# Altium schematic symbol library EPS.SchLib: 45 symbols
Pins are listed as number, name and electrical type; pins without a type are passive.

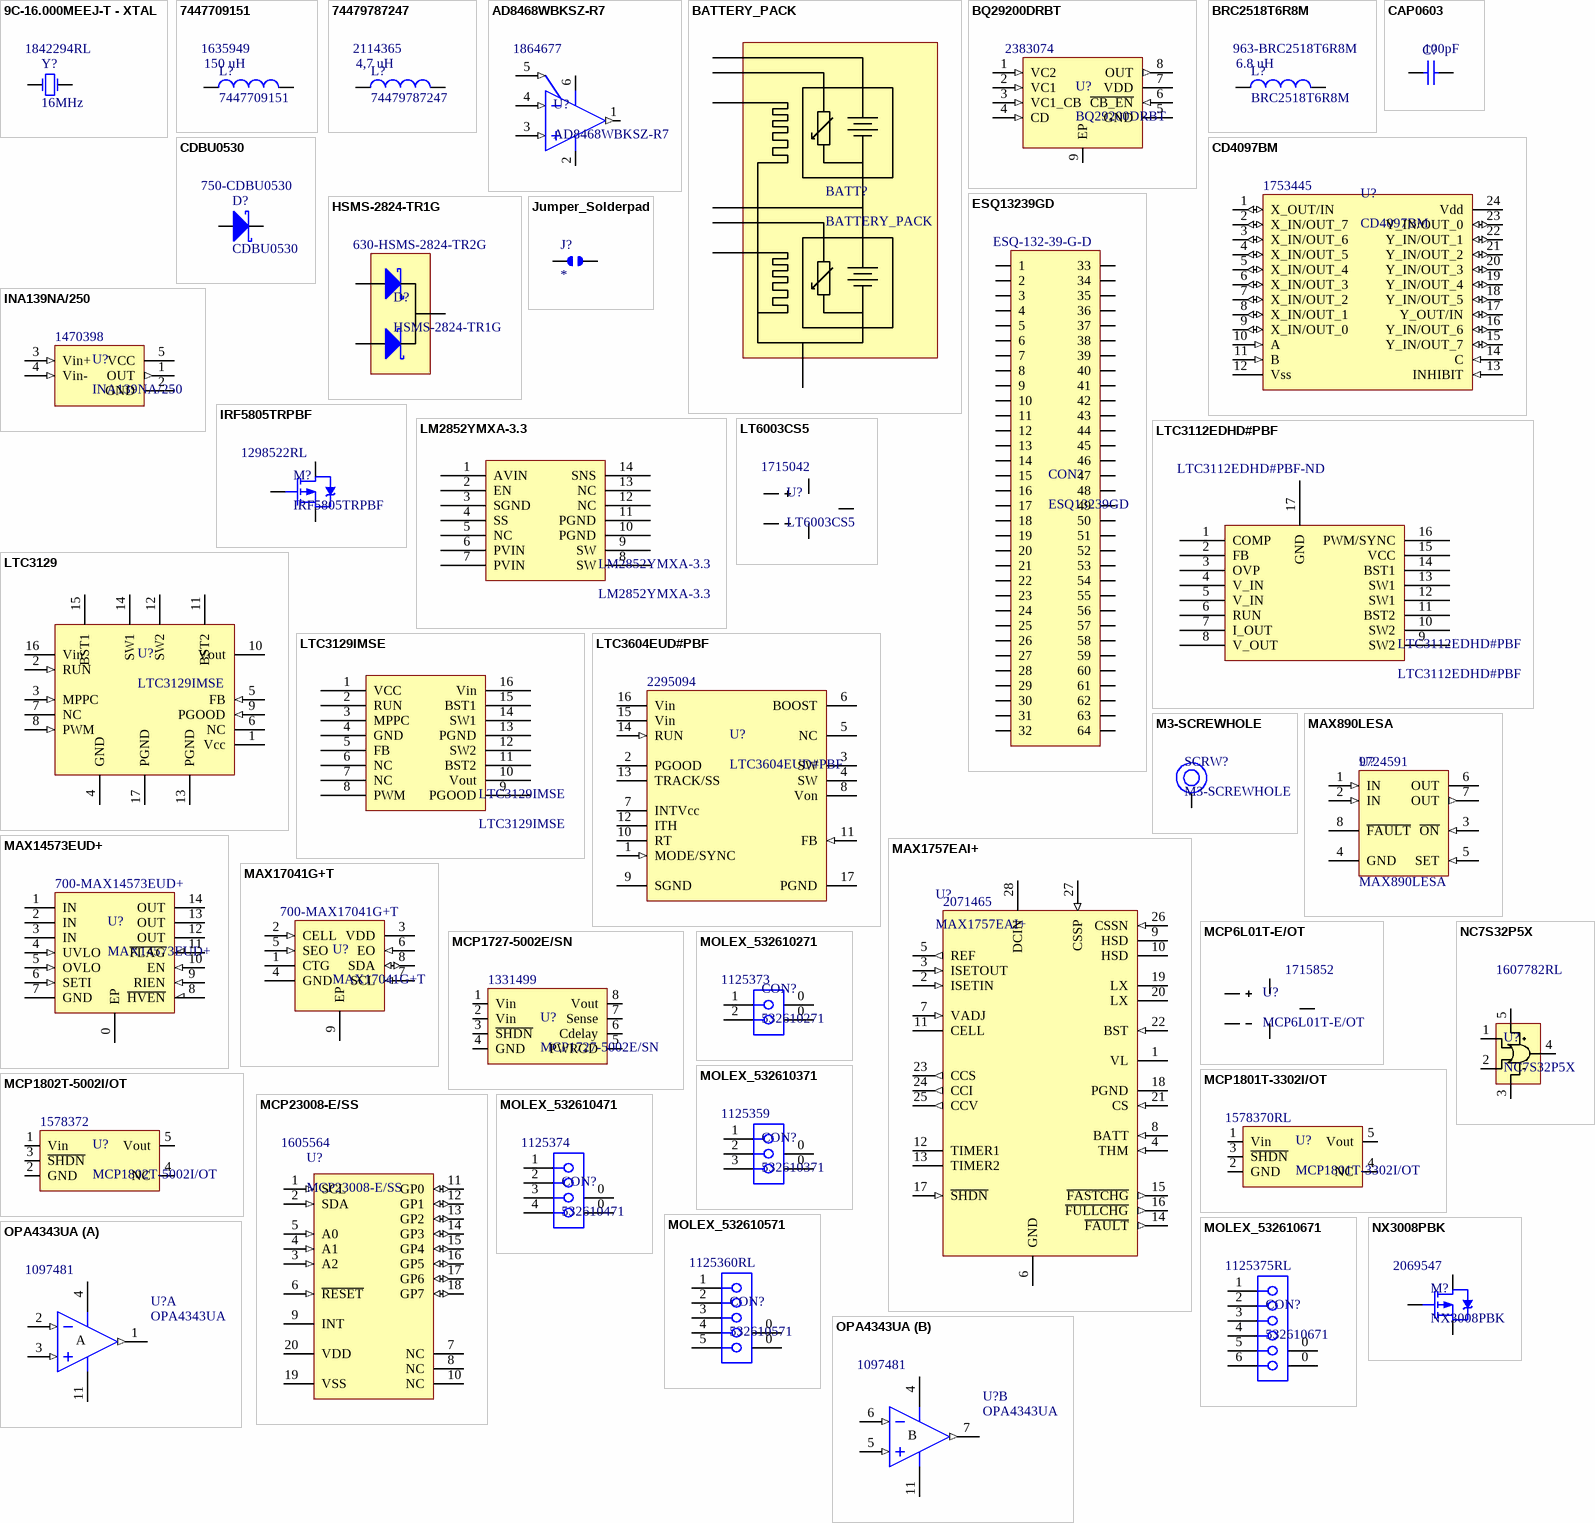
[diagram p0: symbols 9C-16.000MEEJ-T - XTAL to OPA4343UA]

## 9C-16.000MEEJ-T - XTAL
designator Y?, comment 16MHz  Supplier Part Number 1: 1842294RL
16 MHz Crystal Oscillator; Supplier 1: Farnell
footprint 9C-16.000MEEJ-T (16 MHz Crystal)
pins: 1 OSC1, 2 OSC2

## 7447709151
designator L?  value 150 uH  Supplier Part Number 1: 1635949
WE-PD SMD Shielded Power Inductor; DC Resistance: 0.2 Ohm; Supplier 1: Farnell
simulation model INDUCTOR (Inductor)
signal-integrity model Inductor
footprint 7447709151 (WE-PD SMD Shielded Power Inductor)
pins: 1, 2

## 74479787247
designator L?  value 4,7 uH  Supplier Part Number 1: 2114365
INDUCTOR, 4.7UH, 1.25A, 40MHZ; DC Resistance: 0.11 Ohm; Supplier 1: Farnell
simulation model INDUCTOR (Inductor)
signal-integrity model Inductor
footprint 74479787247 (INDUCTOR, 4.7UH, 1.25A, 40MHZ)
pins: 1, 2

## AD8468WBKSZ-R7
designator U?  Supplier Part Number 1: 1864677
Rail-to-Rail, Fast, Low Power 2.5 V to 5.5 V,   Single-Supply TTL/CMOS Comparator; Supplier 1: Farnell
footprint SC70-6 (6-Lead Thin Shrink Small Outline Transistor Package)
pins: 1 Q (out), 2 GND (power), 3 Vp (in), 4 Vn (in), 5 Sdn (in), 6 Vcc (power)

## BATTERY_PACK
designator BATT?
2 Li-Ion Cells with a 10K NTC thermistor 40.5Ohms heater & heach
footprint BatteryPack
pins: 1 BAT_GND, 2 THERM2, 3 THERM1, 4 HEAT2, 5 HEAT1, 6 CELL1, 7 CELL2

## BQ29200DRBT
designator U?  Supplier Part Number 1: 2383074
Voltage Protection with Automatic Cell Balance for 2-Series Cell Li-Ion Batteries; Supplier 1: Farnell
footprint DRB8 (Plastic Small Outline NO-LEAD (S-PVSON-N8))
pins: 1 VC2 (in), 2 VC1 (in), 3 VC1_CB (in), 4 CD (in), 5 GND (power), 6 ~{CB_EN} (in), 7 VDD (power), 8 OUT (out), 9 EP (power)

## BRC2518T6R8M
designator L?  value 6.8 uH  Supplier Part Number 1: 963-BRC2518T6R8M
WIRE-WOUND CHIP POWER INDUCTORS(BR SERIES); Supplier 1: Mouser
simulation model INDUCTOR (Inductor)
signal-integrity model Inductor
footprint BRC2518T6R8M (WIRE-WOUND CHIP POWER INDUCTORS(BR SERIES))
pins: 1, 2

## CAP0603
designator C?  value 100pF  (hidden comment: CAP0603)
Capacitor
simulation model CAP (Capacitor)
signal-integrity model Cap
footprint CAP0603 (Capacitor Chip Inductor, Body 0.6x0.3mm, IPC High Density)
pins: 1, 2

## CD4097BM
designator U?  Supplier Part Number 1: 1753445
LOGIC, DIFF 8CH MUX/DEMUX, 24SOIC; Supplier 1: Farnell
footprint DW024 (24-Pin Plastic Small Outline Integrated Circuit 1.27 mm Pitch, IPC Medium Density)
pins: 1 X_OUT/IN (io), 2 X_IN/OUT_7 (io), 3 X_IN/OUT_6 (io), 4 X_IN/OUT_5 (io), 5 X_IN/OUT_4 (io), 6 X_IN/OUT_3 (io), 7 X_IN/OUT_2 (io), 8 X_IN/OUT_1 (io), 9 X_IN/OUT_0 (io), 10 A (in), 11 B (in), 12 Vss (power), 13 INHIBIT (in), 14 C (in), 15 Y_IN/OUT_7 (io), 16 Y_IN/OUT_6 (io), 17 Y_OUT/IN (io), 18 Y_IN/OUT_5 (io), 19 Y_IN/OUT_4 (io), 20 Y_IN/OUT_3 (io), 21 Y_IN/OUT_2 (io), 22 Y_IN/OUT_1 (io), 23 Y_IN/OUT_0 (io), 24 Vdd (power)

## CDBU0530
designator D?  Supplier Part Number 1: 750-CDBU0530
Schottky Rectifier; Supplier 1: Mouser
footprint SOD-523F
pins: 1 K, 2 A

## ESQ13239GD
designator CON?  Supplier Part Number 1: ESQ-132-39-G-D
Samtec 2.54mm 64 Way 2 Row Straight PCB Socket Through Hole Board to Board; Supplier 1: Arrow
footprint ESQ13239GD (Samtec 2.54mm 64 Way 2 Row Straight PCB Socket Through Hole Board to Board)
pins: 1, 2, 3, 4, 5, 6, 7, 8, 9, 10, 11, 12, 13, 14, 15, 16, 17, 18, 19, 20, 21, 22, 23, 24, 25, 26, 27, 28, 29, 30, 31, 32, 33, 34, 35, 36, 37, 38, 39, 40, 41, 42, 43, 44, 45, 46, 47, 48, 49, 50, 51, 52, 53, 54, 55, 56, 57, 58, 59, 60, 61, 62, 63, 64

## HSMS-2824-TR1G
designator D?  Supplier Part Number 1: 630-HSMS-2824-TR2G
DIODE, RF, SCHOTTKY, DUAL, SOT-23; Supplier 1: Mouser
footprint SOT23-3 (SOT-23-3; 3 Leads; Body 3 x 3 mm, inc. leads (LxW max))
pins: 1 A1, 2 A2, 3 K

## INA139NA/250
designator U?  Supplier Part Number 1: 1470398
CURRENT SHUNT MONITOR, 40V, 5SOT23; Supplier 1: Farnell
footprint DBV005 (SOT-23/SC-74A; 5 Leads; Body 3 x 3 mm, inc. leads (LxW max))
pins: 1 OUT (out), 2 GND (power), 3 Vin+ (in), 4 Vin- (in), 5 VCC (power)

## IRF5805TRPBF
designator M?  Supplier Part Number 1: 1298522RL
MOSFET, P CH, 30V, 3.8A, TSOP6; Supplier 1: Farnell
footprint TSOP-6 (SOT23, 6-Leads, Body 3x1.5mm, Pitch 1mm, Lead Span 2.7mm, IPC Medium Density)
pins: 1,2,5,6 D, 3 G, 4 S

## Jumper_Solderpad
designator J?
Jumper_Solderpad
footprint JUMPER_SOLDERPAD
pins: 1, 2

## LM2852YMXA-3.3
designator LM2852YMXA-3.3
BUCK, 5.5VIN, 2A, 500kHz, 3.3V, 14TSSOP; Supplier 1: Farnell; Supplier Part Number 1: 2115114
footprint TSOP65P650X110-14N (LM2852YMXA) (TSOP, 14-Leads, Body 5,00x4,40mm, Pitch 0,65mm, IPC Medium Density)
pins: 1 AVIN, 2 EN, 3 SGND, 4 SS, 5 NC, 6 PVIN, 7 PVIN, 8 SW, 9 SW, 10 PGND, 11 PGND, 12 NC, 13 NC, 14 SNS

## LT6003CS5
designator U?  Supplier Part Number 1: 1715042
AMPLIFICADOR OPERACIONAL, ÚNICO, 1,6V, 1UA, SOT23-5; Supplier 1: Farnell
footprint DBV005 (SOT-23/SC-74A; 5 Leads; Body 3 x 3 mm, inc. leads (LxW max))
pins: 1 Vout, 2 Vss, 3 Vin+, 4 Vin-, 5 Vdd

## LTC3112EDHD#PBF
designator LTC3112EDHD#PBF  Supplier Part Number 1: LTC3112EDHD#PBF-ND
IC REG BUCK BOOST ADJ 2.5A 16DFN; Supplier 1: Digi-Key
footprint SON50P400X85_HS-17N (SON, 16-Leads, Body 5.00x4.00mm, Pitch 0.50mm, Thermal Pad 4.34x2.44mm, IPC Medium Density)
pins: 1 COMP, 2 FB, 3 OVP, 4 V_IN, 5 V_IN, 6 RUN, 7 I_OUT, 8 V_OUT, 9 SW2, 10 SW2, 11 BST2, 12 SW1, 13 SW1, 14 BST1, 15 VCC, 16 PWM/SYNC, 17 GND

## LTC3129
designator U?, comment LTC3129IMSE
15V, 200mA Synchronous Buck-Boost DC/DC Converter with 1.3µA Quiescent Current; Supplier 1: Digi-Key; Supplier Part Number 1: LTC3129IMSE#PBF-ND
footprint MSOP-16 (16-Lead Plastic MSOP, Exposed Die Pad)
pins: 1 Vcc (power), 2 RUN (in), 3 MPPC (in), 4 GND (power), 5 FB (in), 6 NC, 7 NC, 8 PWM (in), 9 PGOOD (in), 10 Vout (power), 11 BST2 (power), 12 SW2 (power), 13 PGND (power), 14 SW1 (power), 15 BST1 (power), 16 Vin (power), 17 PGND (power)

## LTC3129IMSE
designator LTC3129IMSE
CONV DC-DC, BUCK-BOOST, 1.2 MHz, MSOP-16; Supplier 1: Farnell; Supplier Part Number 1: 2313430
footprint TSSOP50P520X110-16N (LTC3129IMSE) (TSSOP, 16-Leads, Body 4,04x3,00mm, Pitch 0,50mm, IPC Medium Density)
pins: 1 VCC, 2 RUN, 3 MPPC, 4 GND, 5 FB, 6 NC, 7 NC, 8 PWM, 9 PGOOD, 10 Vout, 11 BST2, 12 SW2, 13 PGND, 14 SW1, 15 BST1, 16 Vin

## LTC3604EUD#PBF
designator U?  Supplier Part Number 1: 2295094
2.5A, 15V Monolithic Synchronous Step-Down Regulator; Supplier 1: Farnell
footprint UD16 (16-Pin Plastic Quad Flat No-Lead 0.5 mm Pitch, IPC Low Density)
pins: 1 MODE/SYNC (in), 2 PGOOD, 3 SW, 4 SW, 5 NC, 6 BOOST, 7 INTVcc, 8 Von, 9 SGND (power), 10 RT, 11 FB (in), 12 ITH, 13 TRACK/SS, 14 RUN (in), 15 Vin (power), 16 Vin (power), 17 PGND (power)

## M3-SCREWHOLE
designator SCRW?
M3 Screw Hole
footprint M3-SCREWHOLE
pins: 0

## MAX890LESA
designator U?  Supplier Part Number 1: 9724591
1A, Current-Limited, High Side P-Channel Switch with Thermal Shutdown; Supplier 1: Farnell
footprint NSO8 (SOIC, 8-Leads, Body 4.9x3.9mm, Pitch 1.27mm, IPC Medium Density)
pins: 1 IN (in), 2 IN (in), 3 ~{ON} (in), 4 GND (power), 5 SET (in), 6 OUT, 7 OUT (out), 8 ~{FAULT} (oc)

## MAX1757EAI+
designator U?  Supplier Part Number 1: 2071465
Stand-Alone, Switch-Mode Li+ Battery Charger with Internal 27V Switch; Supplier 1: Farnell
footprint SSOP28 (SOP, 28-Leads, Body 10.2x5.3mm, Pitch 0.65mm, IPC Medium Density)
pins: 1 VL (power), 2 ISETIN (in), 3 ISETOUT (in), 4 THM (in), 5 REF (out), 6 GND (power), 7 VADJ (in), 8 BATT (in), 9 HSD (oc), 10 HSD (oc), 11 CELL, 12 TIMER1, 13 TIMER2, 14 ~{FAULT} (out), 15 ~{FASTCHG} (out), 16 ~{FULLCHG} (out), 17 ~{SHDN} (in), 18 PGND (power), 19 LX (power), 20 LX (power), 21 CS (in), 22 BST (in), 23 CCS (out), 24 CCI (out), 25 CCV (out), 26 CSSN (in), 27 CSSP (in), 28 DCIN (power)

## MAX14573EUD+
designator U?  Supplier Part Number 1: 700-MAX14573EUD+
Adjustable Overvoltage and Overcurrent Protectors with High Accuracy; Supplier 1: Mouser
footprint TSSOP-14
pins: 0 EP (power), 1 IN (power), 2 IN (power), 3 IN (power), 4 UVLO (in), 5 OVLO (in), 6 SETI (in), 7 GND (power), 8 ~{HVEN}, 9 RIEN (in), 10 EN (in), 11 ~{FLAG}, 12 OUT (power), 13 OUT (power), 14 OUT (power)

## MAX17041G+T
designator U?  Supplier Part Number 1: 700-MAX17041G+T
1S/2S Fuel Gauges; Supplier 1: Mouser
footprint t823+1 (Package Land Pattern)
pins: 1 CTG (power), 2 CELL (in), 3 VDD (power), 4 GND (power), 5 SEO (in), 6 EO (in), 7 SCL (in), 8 SDA (io), 9 EP (power)

## MCP6L01T-E/OT
designator U?  Supplier Part Number 1: 1715852
OP AMP, SINGLE, 1.8V, 1MHZ, 5SOT-23; Supplier 1: Farnell
footprint DBV005 (SOT-23/SC-74A; 5 Leads; Body 3 x 3 mm, inc. leads (LxW max))
pins: 1 Vout, 2 Vss, 3 Vin+, 4 Vin-, 5 Vdd

## MCP1727-5002E/SN
designator U?  Supplier Part Number 1: 1331499
REG. DE TENSIÓN, LDO, 1,5A, SMD, SOIC8, 1727; Supplier 1: Farnell
footprint NSO8 (SOIC, 8-Leads, Body 4.9x3.9mm, Pitch 1.27mm, IPC Medium Density)
pins: 1 Vin, 2 Vin, 3 ~{SHDN}, 4 GND, 5 PWRGD, 6 Cdelay, 7 Sense, 8 Vout

## MCP1801T-3302I/OT
designator U?  Supplier Part Number 1: 1578370RL
IC, LDO, 3.3V, 150MA, SOT-23-5; Supplier 1: Farnell
footprint DBV005 (SOT-23/SC-74A; 5 Leads; Body 3 x 3 mm, inc. leads (LxW max))
pins: 1 Vin, 2 GND, 3 ~{SHDN}, 4 NC, 5 Vout

## MCP1802T-5002I/OT
designator U?  Supplier Part Number 1: 1578372
IC, LDO, 5V, 300MA, SOT-23-5; Supplier 1: Farnell
footprint DBV005 (SOT-23/SC-74A; 5 Leads; Body 3 x 3 mm, inc. leads (LxW max))
pins: 1 Vin, 2 GND, 3 ~{SHDN}, 4 NC, 5 Vout

## MCP23008-E/SS
designator U?  Supplier Part Number 1: 1605564
8-Bit I/O Expander with Serial Interface, 20-Pin SSOP, Extended Temperature; Supplier 1: Farnell
footprint SSOP-SS20 (SOP, 20-Leads, Body 7.2x5.2mm, Pitch 0.65mm, IPC Medium Density)
pins: 1 SCL (in), 2 SDA (in), 3 A2 (in), 4 A1 (in), 5 A0 (in), 6 ~{RESET} (in), 7 NC, 8 NC, 9 INT (oc), 10 NC, 11 GP0 (io), 12 GP1 (io), 13 GP2 (io), 14 GP3 (io), 15 GP4 (io), 16 GP5 (io), 17 GP6 (io), 18 GP7 (io), 19 VSS (power), 20 VDD (power)

## MOLEX_532610271
designator CON?, comment 532610271  Supplier Part Number 1: 1125373
1.25mm Pitch PicoBlade™ Header, Surface Mount, Right Angle, Lead-Free, 2 Circuits; Supplier 1: Farnell
footprint 532610271 (MACHO, ACODADO, SMT, 2 VÍAS)
pins: 0 MH1, 0 MH2, 1, 2

## MOLEX_532610371
designator CON?, comment 532610371  Supplier Part Number 1: 1125359
1.25mm Pitch PicoBlade™ Header, Surface Mount, Right Angle, Lead-Free, 3 Circuits; Supplier 1: Farnell
footprint 532610371 (MACHO, ACODADO, SMT, 3 VÍAS)
pins: 0 MH1, 0 MH2, 1, 2, 3

## MOLEX_532610471
designator CON?, comment 532610471  Supplier Part Number 1: 1125374
1.25mm Pitch PicoBlade™ Header, Surface Mount, Right Angle, Lead-Free, 4 Circuits; Supplier 1: Farnell
footprint 532610471 (MACHO, ACODADO, SMT, 4 VÍAS)
pins: 0 MH1, 0 MH2, 1, 2, 3, 4

## MOLEX_532610571
designator CON?, comment 532610571  Supplier Part Number 1: 1125360RL
1.25mm Pitch PicoBlade™ Header, Surface Mount, Right Angle, Lead-Free, 5 Circuits; Supplier 1: Farnell
footprint 532610571 (MACHO, ACODADO, SMT, 5 VÍAS)
pins: 0 MH1, 0 MH2, 1, 2, 3, 4, 5

## MOLEX_532610671
designator CON?, comment 532610671  Supplier Part Number 1: 1125375RL
1.25mm Pitch PicoBlade™ Header, Surface Mount, Right Angle, Lead-Free, 6 Circuits; Supplier 1: Farnell
footprint 532610671 (MACHO, ACODADO, SMT, 6 VÍAS)
pins: 0 MH1, 0 MH2, 1, 2, 3, 4, 5, 6

## NC7S32P5X
designator U?  Supplier Part Number 1: 1607782RL
IC, SM, LOGIC, NC7S, OR GATE; Supplier 1: Farnell
footprint DBV005 (SOT-23/SC-74A; 5 Leads; Body 3 x 3 mm, inc. leads (LxW max))
pins: 1 A, 2 B, 3 GND, 4 Y, 5 VCC

## NX3008PBK
designator M?  Supplier Part Number 1: 2069547
MOSFET, P CH, -30V, -230MA, SOT23; Supplier 1: Farnell
footprint SOT23-3 (SOT-23-3; 3 Leads; Body 3 x 3 mm, inc. leads (LxW max))
pins: 1 G, 2 S, 3 D

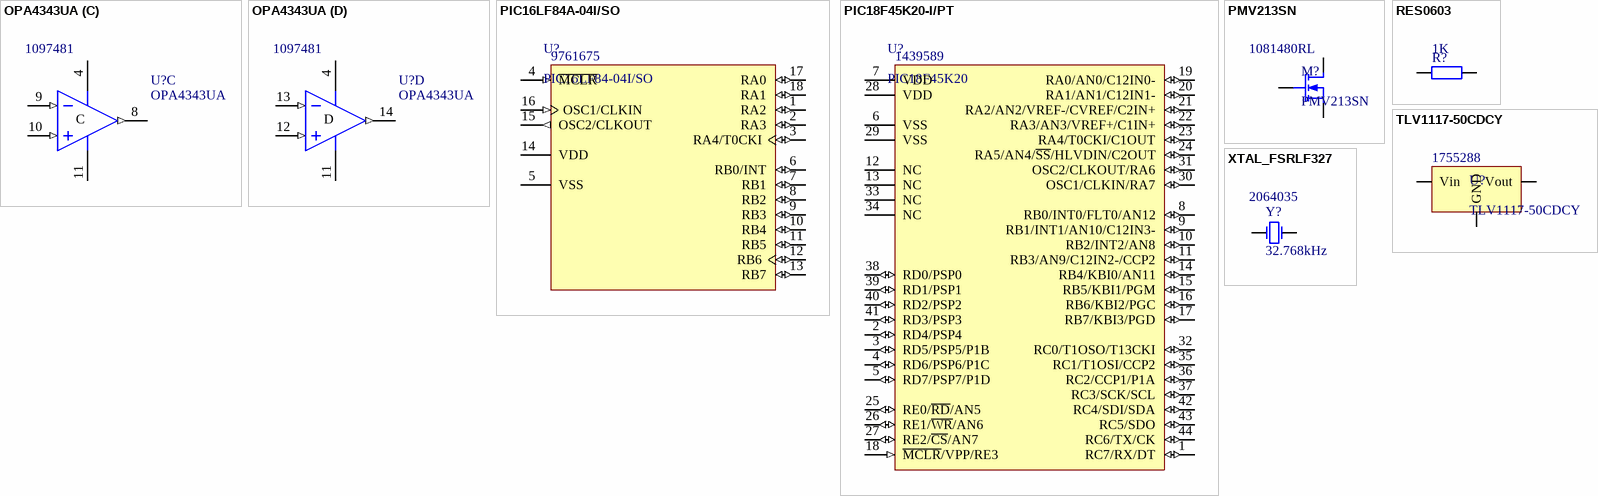
[diagram p1: symbols OPA4343UA to XTAL_FSRLF327]

## OPA4343UA
designator U?  Supplier Part Number 1: 1097481
Quad Wideband, Low-Power Current Feedback Operational Amplifier; Supplier 1: Farnell
footprint D014 (14-Pin Small Outline Integrated Circuit 1.27 mm Pitch, IPC Medium Density)
pins on every part: 4 V+ (power), 11 V- (power)
part A pins: 1 OUT A (out), 2 IN- A (in), 3 IN+ A (in)
part B pins: 5 IN+ B (in), 6 IN- B (in), 7 OUT B (out)
part C pins: 8 OUT C (out), 9 IN- C (in), 10 IN+ C (in)
part D pins: 12 IN+ D (in), 13 IN- D (in), 14 OUT D (out)
part A text: A
part B text: B
part C text: C
part D text: D

## PIC16LF84A-04I/SO
designator U?, comment PIC16LF84-04I/SO  Supplier Part Number 1: 9761675
Enhanced FLASH/EEPROM 8-Bit Microcontroller, 1K (x14-Bit words) FLASH, 68 Bytes RAM, 4 MHz, 18-Pin SOIC, Extended VDD Range, Industrial Temperature; Supplier 1: Farnell
footprint SOIC-SO18 (SOIC, 18-Leads, Body 11.5x7.5mm, Pitch 1.27mm, IPC Medium Density)
pins: 1 RA2 (io), 2 RA3 (io), 3 RA4/T0CKI (io), 4 ~{MCLR} (in), 5 VSS (power), 6 RB0/INT (io), 7 RB1 (io), 8 RB2 (io), 9 RB3 (io), 10 RB4 (io), 11 RB5 (io), 12 RB6 (io), 13 RB7 (io), 14 VDD (power), 15 OSC2/CLKOUT (out), 16 OSC1/CLKIN (in), 17 RA0 (io), 18 RA1 (io)

## PIC18F45K20-I/PT
designator U?, comment PIC18F45K20  Supplier Part Number 1: 1439589
Flash Microcontroller with 10-Bit A/D and nanoWatt Technology, 32K Flash, 44-Pin TQFP, Industrial Temperature Range; Supplier 1: Farnell
footprint TQFP-PT44 (Thin QFP, 44-Leads, Body 10x10mm, Pitch 0.8mm, IPC Medium Density)
pins: 1 RC7/RX/DT (io), 2 RD4/PSP4 (io), 3 RD5/PSP5/P1B (io), 4 RD6/PSP6/P1C (io), 5 RD7/PSP7/P1D (io), 6 VSS (power), 7 VDD (power), 8 RB0/INT0/FLT0/AN12 (io), 9 RB1/INT1/AN10/C12IN3- (io), 10 RB2/INT2/AN8 (io), 11 RB3/AN9/C12IN2-/CCP2 (io), 12 NC, 13 NC, 14 RB4/KBI0/AN11 (io), 15 RB5/KBI1/PGM (io), 16 RB6/KBI2/PGC (io), 17 RB7/KBI3/PGD (io), 18 ~{MCLR}/VPP/RE3 (in), 19 RA0/AN0/C12IN0- (io), 20 RA1/AN1/C12IN1- (io), 21 RA2/AN2/VREF-/CVREF/C2IN+ (io), 22 RA3/AN3/VREF+/C1IN+ (io), 23 RA4/T0CKI/C1OUT (io), 24 RA5/AN4/~{SS}/HLVDIN/C2OUT (io), 25 RE0/~{RD}/AN5 (io), 26 RE1/~{WR}/AN6 (io), 27 RE2/~{CS}/AN7 (io), 28 VDD (power), 29 VSS (power), 30 OSC1/CLKIN/RA7 (io), 31 OSC2/CLKOUT/RA6 (io), 32 RC0/T1OSO/T13CKI (io), 33 NC, 34 NC, 35 RC1/T1OSI/CCP2 (io), 36 RC2/CCP1/P1A (io), 37 RC3/SCK/SCL (io), 38 RD0/PSP0 (io), 39 RD1/PSP1 (io), 40 RD2/PSP2 (io), 41 RD3/PSP3 (io), 42 RC4/SDI/SDA (io), 43 RC5/SDO (io), 44 RC6/TX/CK (io)

## PMV213SN
designator M?  Supplier Part Number 1: 1081480RL
MOSFET, N CH, 100V, 1,9A, SOT-23; Supplier 1: Farnell
footprint SOT23-3 (SOT-23-3; 3 Leads; Body 3 x 3 mm, inc. leads (LxW max))
pins: 1 G, 2 S, 3 D

## RES0603
designator R?  value 1K  (hidden comment: RES0603)
Resistor
simulation model RESISTOR (Resistor)
signal-integrity model Res
footprint RES0603 (Resistor Chip Inductor, Body 0.6x0.3mm, IPC High Density)
pins: 1, 2

## TLV1117-50CDCY
designator U?  Supplier Part Number 1: 1755288
LDO REG 800MA 5V SOT223-4; Supplier 1: Farnell
footprint SOT223-4
pins: 1 GND, 2, 4 Vout, 3 Vin

## XTAL_FSRLF327
designator Y?, comment 32.768kHz  Supplier Part Number 1: 2064035
Crystal Oscillator; Supplier 1: Farnell
simulation model XTAL (Spice Subcircuit)
footprint FSRLF327 (CRISTAL, 32.768KHZ, SMD)
pins: 1 OSC1, 3 OSC2